# Altium schematic symbol library MCP6C02T-100E_CHY.Schlib: 1 symbol
Pins are listed as number, name and electrical type; pins without a type are passive.

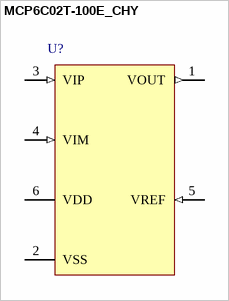
[diagram p0: symbol MCP6C02T-100E_CHY]

## MCP6C02T-100E_CHY
designator U?
pins: 1 VOUT (out), 2 VSS (power), 3 VIP (in), 4 VIM (in), 5 VREF (in), 6 VDD (power)